# EAGLE library part RC-CC1310-XXX (library RC-CC1310-XXX)
RF Module: RC-CC1310-XXX Manufacturer: Radio Controlli IC: CC1310F128 (Texas Instruments) Library creator: piLinux.me
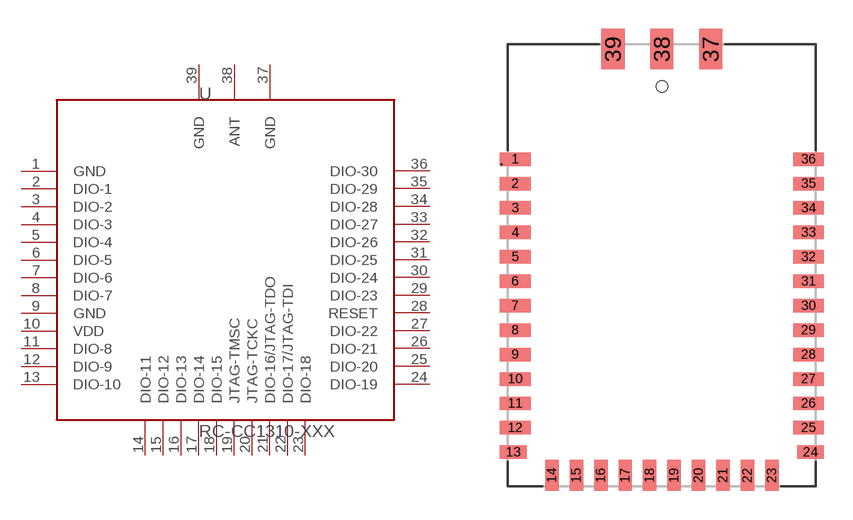
[diagram p0: symbol with the pads of RC-CC1310-XXX; footprint RC-CC1310-XXX]

Designator prefix -

## RC-CC1310-XXXSMD  [RC-CC1310-XXX]
1  GND  pwr
2  DIO-1
3  DIO-2
4  DIO-3
5  DIO-4
6  DIO-5
7  DIO-6
8  DIO-7
9  GND  pwr
10  VDD  pwr
11  DIO-8
12  DIO-9
13  DIO-10
14  DIO-11
15  DIO-12
16  DIO-13
17  DIO-14
18  DIO-15
19  JTAG-TMSC
20  JTAG-TCKC
21  DIO-16/JTAG-TDO
22  DIO-17/JTAG-TDI
23  DIO-18
24  DIO-19
25  DIO-20
26  DIO-21
27  DIO-22
28  RESET
29  DIO-23
30  DIO-24
31  DIO-25
32  DIO-26
33  DIO-27
34  DIO-28
35  DIO-29
36  DIO-30
37  GND  pwr
38  ANT
39  GND  pwr

## Footprint RC-CC1310-XXX (pad centres in mm)
smd 1.6 x 0.7: 1 0,0; 2 0,-1.27; 3 0,-2.54; 4 0,-3.81; 5 0,-5.08; 6 0,-6.35; 7 0,-7.62; 8 0,-8.89; 9 0,-10.16; 10 0,-11.43; 11 0,-12.7; 12 0,-13.97; 25 15.24,-13.97; 26 15.24,-12.7; 27 15.24,-11.43; 28 15.24,-10.16; 29 15.24,-8.89; 30 15.24,-7.62; 31 15.24,-6.35; 32 15.24,-5.08; 33 15.24,-3.81; 34 15.24,-2.54; 35 15.24,-1.27; 36 15.24,0
smd 1.4 x 0.7: 13 -0.1,-15.24; 24 15.34,-15.24
smd 0.7 x 1.6: 14 1.905,-16.44; 15 3.175,-16.44; 16 4.445,-16.44; 17 5.715,-16.44; 18 6.985,-16.44; 19 8.255,-16.44; 20 9.525,-16.44; 21 10.795,-16.44; 22 12.065,-16.44; 23 13.335,-16.44
smd 1.2 x 2.1: 37 10.16,5.73; 38 7.62,5.73; 39 5.08,5.73
hole 0.6 at 7.62,3.79